# Altium footprint library Miscellaneous Connectors.PcbLib: 184 footprints (part 10 of 12)
Each footprint in its own frame and in the unit in brackets; x right, y up, seen from the top. Pads: shape width x height; smd on the part's side, far side on the other; paste and mask are expansions set on the pad; w line width, h text height; cw(c..) or ccw(c..) is an arc to the next point about the centre after c.
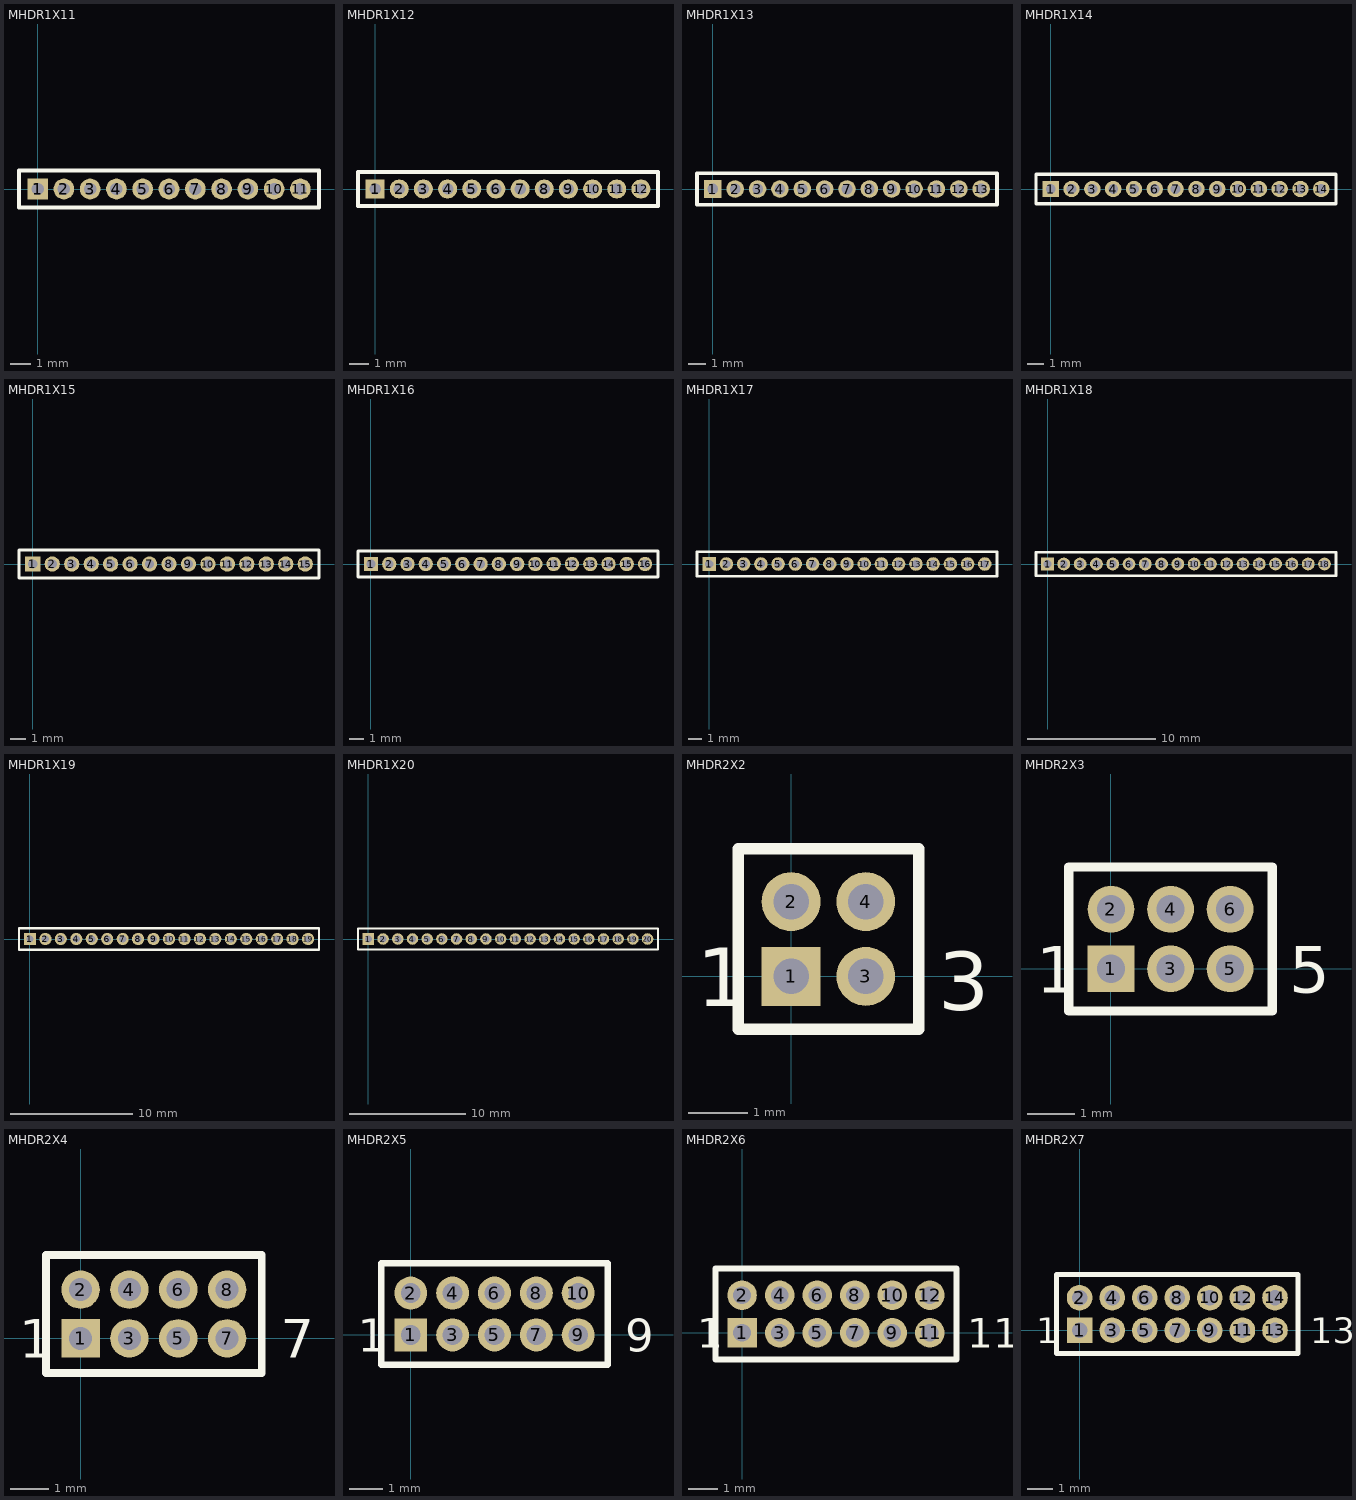
[diagram p9: the footprints below, top view; thin cyan lines are the x and y axes]

## MHDR1X11 [mm] "Connector; Header; 11 Position"
pads (11):
  rect 1x1 hole 0.6: 1(0,0)
  round 1 hole 0.6: 2(1.27,0) 3(2.54,0) 4(3.81,0) 5(5.08,0) 6(6.35,0) 7(7.62,0) 8(8.89,0) 9(10.16,0) 10(11.43,0) 11(12.7,0)
Top Overlay:
  lines w0.2: -0.9,-0.9 13.6,-0.9 13.6,0.9 -0.9,0.9 -0.9,-0.9

## MHDR1X12 [mm] "Connector; Header; 12 Position"
pads (12):
  rect 1x1 hole 0.6: 1(0,0)
  round 1 hole 0.6: 2(1.27,0) 3(2.54,0) 4(3.81,0) 5(5.08,0) 6(6.35,0) 7(7.62,0) 8(8.89,0) 9(10.16,0) 10(11.43,0) 11(12.7,0) 12(13.97,0)
Top Overlay:
  lines w0.2: -0.9,-0.9 -0.9,0.9 14.87,0.9 14.87,-0.9 -0.9,-0.9

## MHDR1X13 [mm] "Connector; Header; 13 Position"
pads (13):
  rect 1x1 hole 0.6: 1(0,0)
  round 1 hole 0.6: 2(1.27,0) 3(2.54,0) 4(3.81,0) 5(5.08,0) 6(6.35,0) 7(7.62,0) 8(8.89,0) 9(10.16,0) 10(11.43,0) 11(12.7,0) 12(13.97,0) 13(15.24,0)
Top Overlay:
  lines w0.2: -0.9,-0.9 -0.9,0.9 16.14,0.9 16.14,-0.9 -0.9,-0.9

## MHDR1X14 [mm] "Connector; Header; 14 Position"
pads (14):
  rect 1x1 hole 0.6: 1(0,0)
  round 1 hole 0.6: 2(1.27,0) 3(2.54,0) 4(3.81,0) 5(5.08,0) 6(6.35,0) 7(7.62,0) 8(8.89,0) 9(10.16,0) 10(11.43,0) 11(12.7,0) 12(13.97,0) 13(15.24,0) 14(16.51,0)
Top Overlay:
  lines w0.2: -0.9,-0.9 -0.9,0.9 17.41,0.9 17.41,-0.9 -0.9,-0.9

## MHDR1X15 [mm] "Connector; Header; 15 Position"
pads (15):
  rect 1x1 hole 0.6: 1(0,0)
  round 1 hole 0.6: 2(1.27,0) 3(2.54,0) 4(3.81,0) 5(5.08,0) 6(6.35,0) 7(7.62,0) 8(8.89,0) 9(10.16,0) 10(11.43,0) 11(12.7,0) 12(13.97,0) 13(15.24,0) 14(16.51,0) 15(17.78,0)
Top Overlay:
  lines w0.2: -0.9,-0.9 -0.9,0.9 18.68,0.9 18.68,-0.9 -0.9,-0.9

## MHDR1X16 [mm] "Connector; Header; 16 Position"
pads (16):
  rect 1x1 hole 0.6: 1(0,0)
  round 1 hole 0.6: 2(1.27,0) 3(2.54,0) 4(3.81,0) 5(5.08,0) 6(6.35,0) 7(7.62,0) 8(8.89,0) 9(10.16,0) 10(11.43,0) 11(12.7,0) 12(13.97,0) 13(15.24,0) 14(16.51,0) 15(17.78,0) 16(19.05,0)
Top Overlay:
  lines w0.2: -0.9,-0.9 19.95,-0.9 19.95,0.9 -0.9,0.9 -0.9,-0.9

## MHDR1X17 [mm] "Connector; Header; 17 Position"
pads (17):
  rect 1x1 hole 0.6: 1(0,0)
  round 1 hole 0.6: 2(1.27,0) 3(2.54,0) 4(3.81,0) 5(5.08,0) 6(6.35,0) 7(7.62,0) 8(8.89,0) 9(10.16,0) 10(11.43,0) 11(12.7,0) 12(13.97,0) 13(15.24,0) 14(16.51,0) 15(17.78,0) 16(19.05,0) 17(20.32,0)
Top Overlay:
  lines w0.2: -0.9,-0.9 -0.9,0.9 21.22,0.9 21.22,-0.9 -0.9,-0.9

## MHDR1X18 [mm] "Connector; Header; 18 Position"
pads (18):
  rect 1x1 hole 0.6: 1(0,0)
  round 1 hole 0.6: 2(1.27,0) 3(2.54,0) 4(3.81,0) 5(5.08,0) 6(6.35,0) 7(7.62,0) 8(8.89,0) 9(10.16,0) 10(11.43,0) 11(12.7,0) 12(13.97,0) 13(15.24,0) 14(16.51,0) 15(17.78,0) 16(19.05,0) 17(20.32,0) 18(21.59,0)
Top Overlay:
  lines w0.2: -0.9,-0.9 22.49,-0.9 22.49,0.9 -0.9,0.9 -0.9,-0.9

## MHDR1X19 [mm] "Connector; Header; 19 Position"
pads (19):
  rect 1x1 hole 0.6: 1(0,0)
  round 1 hole 0.6: 2(1.27,0) 3(2.54,0) 4(3.81,0) 5(5.08,0) 6(6.35,0) 7(7.62,0) 8(8.89,0) 9(10.16,0) 10(11.43,0) 11(12.7,0) 12(13.97,0) 13(15.24,0) 14(16.51,0) 15(17.78,0) 16(19.05,0) 17(20.32,0) 18(21.59,0) 19(22.86,0)
Top Overlay:
  lines w0.2: -0.9,-0.9 23.76,-0.9 23.76,0.9 -0.9,0.9 -0.9,-0.9

## MHDR1X20 [mm] "Connector; Header; 20 Position"
pads (20):
  rect 1x1 hole 0.6: 1(0,0)
  round 1 hole 0.6: 2(1.27,0) 3(2.54,0) 4(3.81,0) 5(5.08,0) 6(6.35,0) 7(7.62,0) 8(8.89,0) 9(10.16,0) 10(11.43,0) 11(12.7,0) 12(13.97,0) 13(15.24,0) 14(16.51,0) 15(17.78,0) 16(19.05,0) 17(20.32,0) 18(21.59,0) 19(22.86,0) 20(24.13,0)
Top Overlay:
  lines w0.2: -0.9,-0.9 -0.9,0.9 25.03,0.9 25.03,-0.9 -0.9,-0.9

## MHDR2X2 [mm] "Connector; Header; 2x2 Position"
pads (4):
  rect 1x1 hole 0.6: 1(0,0)
  round 1 hole 0.6: 2(0,1.27) 3(1.27,0) 4(1.27,1.27)
Top Overlay:
  lines w0.2: -0.9,-0.9 2.17,-0.9 2.17,2.17 -0.9,2.17 -0.9,-0.9
  text "3" at 2.5,-0.578 h1
  text "1" at -1.6,-0.508 h1

## MHDR2X3 [mm] "Connector; Header; 3x2 Position"
pads (6):
  rect 1x1 hole 0.6: 1(0,0)
  round 1 hole 0.6: 2(0,1.27) 3(1.27,0) 4(1.27,1.27) 5(2.54,0) 6(2.54,1.27)
Top Overlay:
  lines w0.2: -0.9,-0.9 3.44,-0.9 3.44,2.17 -0.9,2.17 -0.9,-0.9
  text "1" at -1.6,-0.508 h1
  text "5" at 3.8,-0.508 h1

## MHDR2X4 [mm] "Connector; Header; 4x2 Position"
pads (8):
  rect 1x1 hole 0.6: 1(0,0)
  round 1 hole 0.6: 2(0,1.27) 3(1.27,0) 4(1.27,1.27) 5(2.54,0) 6(2.54,1.27) 7(3.81,0) 8(3.81,1.27)
Top Overlay:
  lines w0.2: -0.9,-0.9 -0.9,2.17 4.71,2.17 4.71,-0.9 -0.9,-0.9
  text "7" at 5.2,-0.508 h1
  text "1" at -1.6,-0.508 h1

## MHDR2X5 [mm] "Connector; Header; 5x2 Position"
pads (10):
  rect 1x1 hole 0.6: 1(0,0)
  round 1 hole 0.6: 2(0,1.27) 3(1.27,0) 4(1.27,1.27) 5(2.54,0) 6(2.54,1.27) 7(3.81,0) 8(3.81,1.27) 9(5.08,0) 10(5.08,1.27)
Top Overlay:
  lines w0.2: -0.9,-0.9 -0.9,2.17 5.98,2.17 5.98,-0.9 -0.9,-0.9
  text "9" at 6.5,-0.508 h1
  text "1" at -1.6,-0.508 h1

## MHDR2X6 [mm] "Connector; Header; 6x2 Position"
pads (12):
  rect 1x1 hole 0.6: 1(0,0)
  round 1 hole 0.6: 2(0,1.27) 3(1.27,0) 4(1.27,1.27) 5(2.54,0) 6(2.54,1.27) 7(3.81,0) 8(3.81,1.27) 9(5.08,0) 10(5.08,1.27) 11(6.35,0) 12(6.35,1.27)
Top Overlay:
  lines w0.2: -0.9,-0.9 7.25,-0.9 7.25,2.17 -0.9,2.17 -0.9,-0.9
  text "1" at -1.524,-0.508 h1
  text "11" at 7.62,-0.508 h1

## MHDR2X7 [mm] "Connector; Header; 7x2 Position"
pads (14):
  rect 1x1 hole 0.6: 1(0,0)
  round 1 hole 0.6: 2(0,1.27) 3(1.27,0) 4(1.27,1.27) 5(2.54,0) 6(2.54,1.27) 7(3.81,0) 8(3.81,1.27) 9(5.08,0) 10(5.08,1.27) 11(6.35,0) 12(6.35,1.27) 13(7.62,0) 14(7.62,1.27)
Top Overlay:
  lines w0.2: -0.9,-0.9 -0.9,2.17 8.52,2.17 8.52,-0.9 -0.9,-0.9
  text "13" at 9,-0.508 h1
  text "1" at -1.7,-0.508 h1